# Altium footprint library MSS5131.PcbLib: 1 footprints
Each footprint in its own frame and in the unit in brackets; x right, y up, seen from the top. Pads: shape width x height; smd on the part's side, far side on the other; paste and mask are expansions set on the pad; w line width, h text height; cw(c..) or ccw(c..) is an arc to the next point about the centre after c.
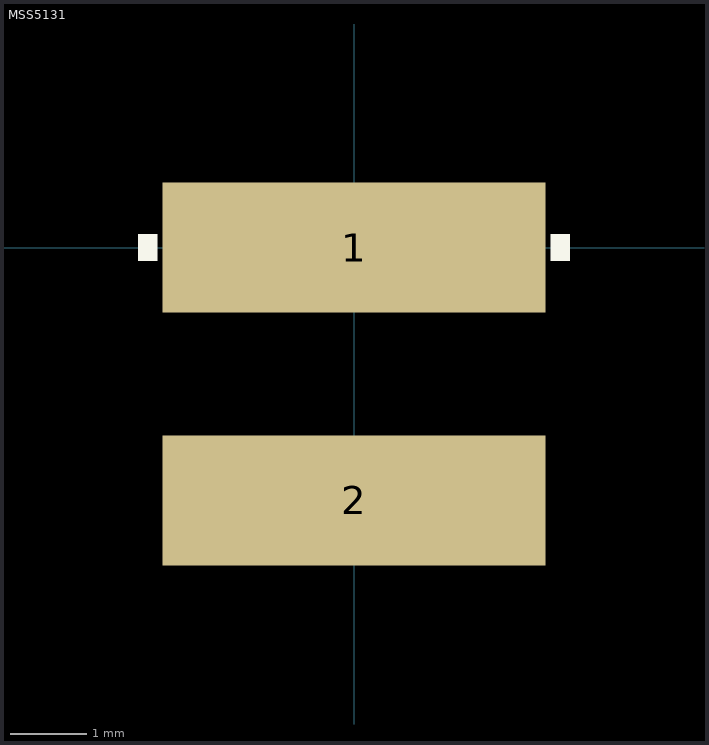
[diagram p0: the footprint, top view; thin cyan lines are the x and y axes]

## MSS5131 [mil]
height 122.05
pads (2):
  rect 197x67 smd: 1(0,0) 2(0,-130)
TopOverlay:
  region: -101,-7 -101,7 -111,7 -111,-7
  region: 111,-7 111,7 101,7 101,-7
3D body: height 122, standoff 0, extent -100,-163 100,37